# Altium schematic symbol library KB-FCT3065.SchLib: 1 symbol
Pins are listed as number, name and electrical type; pins without a type are passive.

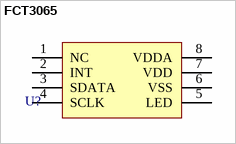
[diagram p0: symbol FCT3065]

## FCT3065
designator U?
pins: 1 NC, 2 INT, 3 SDATA, 4 SCLK, 5 LED, 6 VSS, 7 VDD, 8 VDDA